# Altium schematic symbol library SCH - ARM CORTEX - STM STM8S105C4Tx.SchLib: 1 symbol
Pins are listed as number, name and electrical type; pins without a type are passive.

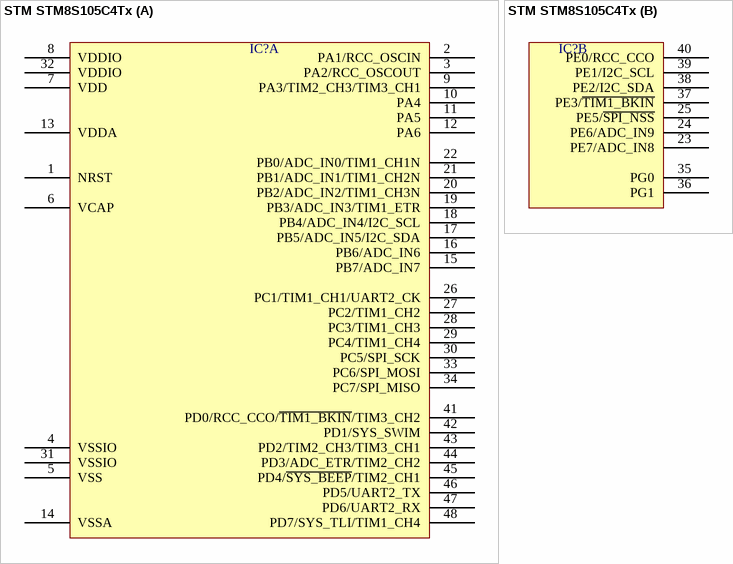
[diagram p0: symbol STM STM8S105C4Tx]

## STM STM8S105C4Tx
designator IC?  (value not drawn)
part A pins: 1 NRST, 2 PA1/RCC_OSCIN, 3 PA2/RCC_OSCOUT, 4 VSSIO, 5 VSS, 6 VCAP, 7 VDD, 8 VDDIO, 9 PA3/TIM2_CH3/TIM3_CH1, 10 PA4, 11 PA5, 12 PA6, 13 VDDA, 14 VSSA, 15 PB7/ADC_IN7, 16 PB6/ADC_IN6, 17 PB5/ADC_IN5/I2C_SDA, 18 PB4/ADC_IN4/I2C_SCL, 19 PB3/ADC_IN3/TIM1_ETR, 20 PB2/ADC_IN2/TIM1_CH3N, 21 PB1/ADC_IN1/TIM1_CH2N, 22 PB0/ADC_IN0/TIM1_CH1N, 26 PC1/TIM1_CH1/UART2_CK, 27 PC2/TIM1_CH2, 28 PC3/TIM1_CH3, 29 PC4/TIM1_CH4, 30 PC5/SPI_SCK, 31 VSSIO, 32 VDDIO, 33 PC6/SPI_MOSI, 34 PC7/SPI_MISO, 41 PD0/RCC_CCO/~{TIM1_BKIN}/TIM3_CH2, 42 PD1/SYS_SWIM, 43 PD2/TIM2_CH3/TIM3_CH1, 44 PD3/ADC_ETR/TIM2_CH2, 45 PD4/~{SYS_BEEP}/TIM2_CH1, 46 PD5/UART2_TX, 47 PD6/UART2_RX, 48 PD7/SYS_TLI/TIM1_CH4
part B pins: 23 PE7/ADC_IN8, 24 PE6/ADC_IN9, 25 PE5/~{SPI_NSS}, 35 PG0, 36 PG1, 37 PE3/~{TIM1_BKIN}, 38 PE2/I2C_SDA, 39 PE1/I2C_SCL, 40 PE0/RCC_CCO